# Altium footprint library PcbLib1.PcbLib: 11 footprints
Each footprint in its own frame and in the unit in brackets; x right, y up, seen from the top. Pads: shape width x height; smd on the part's side, far side on the other; paste and mask are expansions set on the pad; w line width, h text height; cw(c..) or ccw(c..) is an arc to the next point about the centre after c.
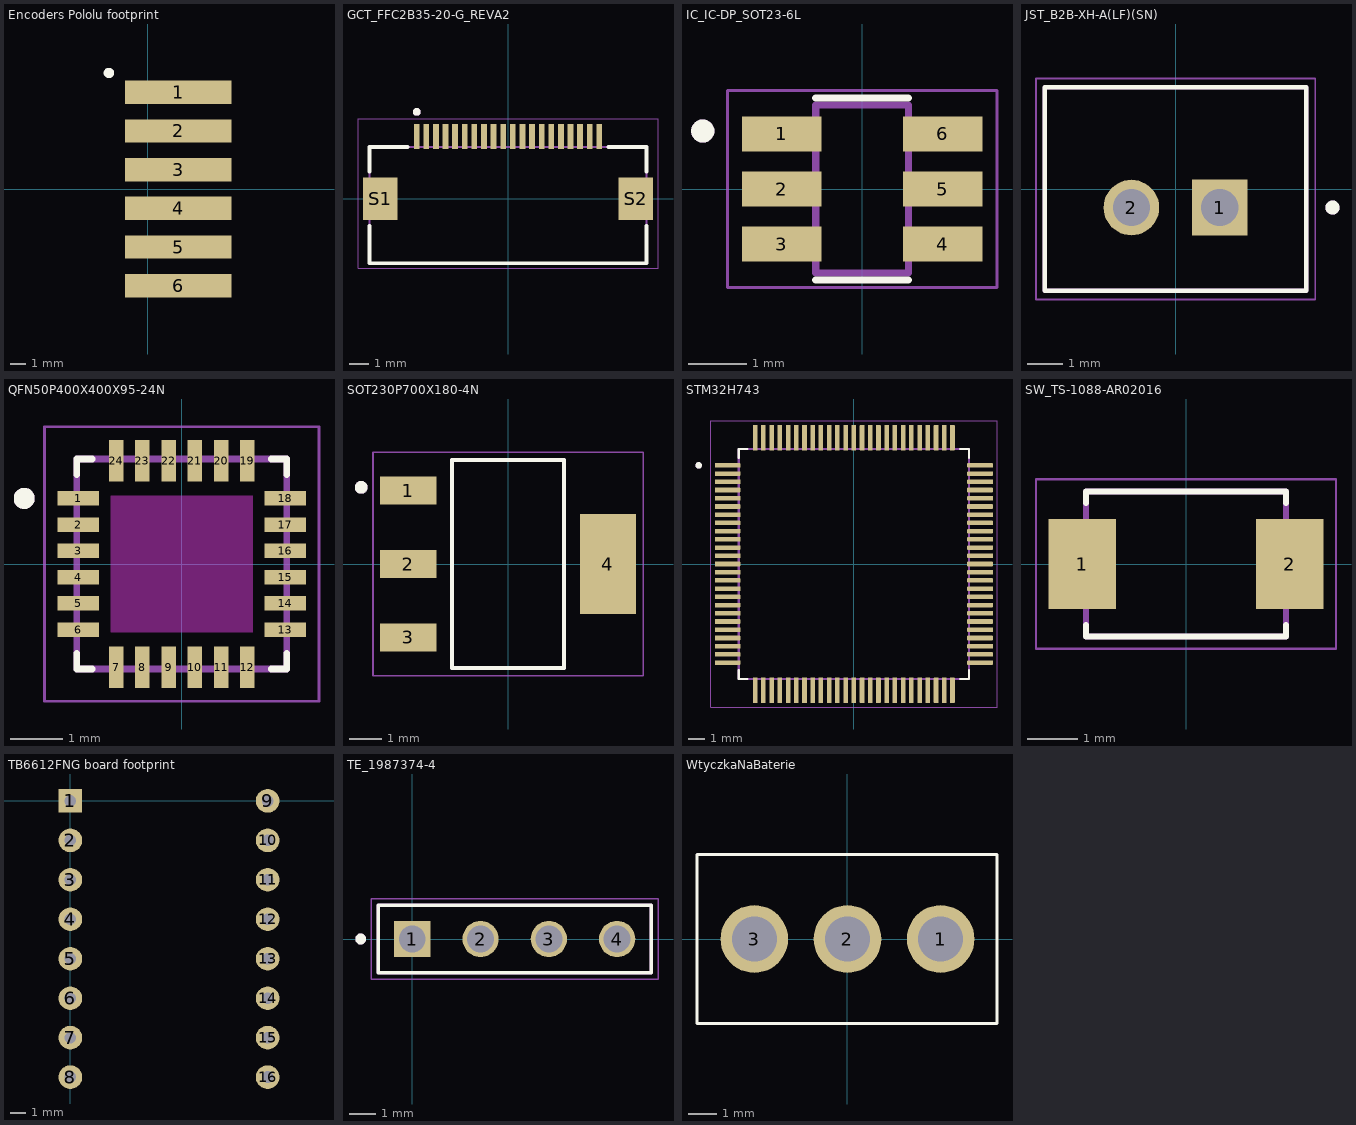
[diagram p0: the footprints below, top view; thin cyan lines are the x and y axes]

## Encoders Pololu footprint [mm]
pads (6):
  rect 7x1.524 smd: 1(2,6.35) 2(2,3.81) 3(2,1.27) 4(2,-1.27) 5(2,-3.81) 6(2,-6.35)
Top Overlay:
  circle w0.381: c-2.54,7.62 r0.15
3D body "magnetic-encoder-pair-kit-for-micro-metal-gearmotors-hpcb-compatible-w1r02a.step": height 9.67, standoff 2.02, extent 2.445,-3.825 4.445,3.825
3D body "magnetic-encoder-pair-kit-for-micro-metal-gearmotors-hpcb-compatible-enc03b.step": height 10.64, standoff 0.04, extent 5.63,-5.8 7.62,5.8

## GCT_FFC2B35-20-G_REVA2 [mm]
pads (22):
  rect 0.3x1.3 smd: 1(-4.75,3.25) 2(-4.25,3.25) 3(-3.75,3.25) 4(-3.25,3.25) 5(-2.75,3.25) 6(-2.25,3.25) 7(-1.75,3.25) 8(-1.25,3.25) 9(-0.75,3.25) 10(-0.25,3.25) 11(0.25,3.25) 12(0.75,3.25) 13(1.25,3.25) 14(1.75,3.25) 15(2.25,3.25) 16(2.75,3.25) 17(3.25,3.25) 18(3.75,3.25) 19(4.25,3.25) 20(4.75,3.25)
  rect 1.8x2.2 smd: S1(-6.65,0) S2(6.65,0)
Top Overlay:
  circle w0.2: c-4.75,4.519 r0.1
  lines w0.2: -7.2,-1.42 -7.2,-3.35 7.2,-3.35 7.2,-1.42 ; -7.2,1.42 -7.2,2.7 -5.22,2.7 ; 5.22,2.7 7.2,2.7 7.2,1.42
Mechanical 13:
  circle w0.2: c-4.75,4.519 r0.1
  lines w0.1: -7.2,-3.35 7.2,-3.35 7.2,2.7 -7.2,2.7 -7.2,-3.35
Mechanical 15:
  lines w0.05: -7.8,-3.6 -7.8,4.15 7.8,4.15 7.8,-3.6 -7.8,-3.6
3D body "FFC2B35-20-G--3DModel-STEP-56544.STEP": height 2, standoff 0, extent -7.2,-3.345 7.2,3.415

## IC_IC-DP_SOT23-6L [mm]
height 1.3
pads (6):
  rect 1.375x0.6 smd: 1(-1.389,0.95) 2(-1.389,0) 3(-1.389,-0.95) 4(1.389,-0.95) 5(1.389,0) 6(1.389,0.95)
Top Overlay:
  circle w0.2: c-2.75,1 r0.1
  lines w0.127: -0.8,-1.57 0.8,-1.57 ; -0.8,1.57 0.8,1.57
Mechanical 13:
  circle w0.2: c-2.75,1 r0.1
  lines w0.127: -0.8,-1.45 -0.8,1.45 0.8,1.45 0.8,-1.45 -0.8,-1.45
Mechanical 15:
  lines w0.05: -2.326,-1.7 2.326,-1.7 2.326,1.7 -2.326,1.7 -2.326,-1.7
3D body "step_temp.STEP": height 1.3, standoff 0, extent -1.4,-1.45 1.4,1.45

## JST_B2B-XH-A(LF)(SN) [mm]
height 7
pads (2):
  rect 1.575x1.575 / inner round 1.575 / far side rect 1.575x1.575 hole 1.05: 1(1.25,-0.525)
  round 1.575 hole 1.05: 2(-1.25,-0.525)
Top Overlay:
  circle w0.2: c4.44,-0.525 r0.1
  lines w0.127: -3.7,-2.875 -3.7,2.875 3.7,2.875 3.7,-2.875 -3.7,-2.875
Mechanical 13:
  circle w0.2: c4.44,-0.525 r0.1
  lines w0.127: -3.7,-2.875 -3.7,2.875 3.7,2.875 3.7,-2.875 -3.7,-2.875
Mechanical 15:
  lines w0.05: -3.95,-3.125 3.95,-3.125 3.95,3.125 -3.95,3.125 -3.95,-3.125
3D body "step_temp.STEP": height 7, standoff -3.4, extent -3.7,-2.875 3.7,2.875

## QFN50P400X400X95-24N [mm]
height 0.95
pads (24):
  rect 0.79x0.28 smd: 1(-1.97,1.25) 2(-1.97,0.75) 3(-1.97,0.25) 4(-1.97,-0.25) 5(-1.97,-0.75) 6(-1.97,-1.25) 13(1.97,-1.25) 14(1.97,-0.75) 15(1.97,-0.25) 16(1.97,0.25) 17(1.97,0.75) 18(1.97,1.25)
  rect 0.28x0.79 smd: 7(-1.25,-1.97) 8(-0.75,-1.97) 9(-0.25,-1.97) 10(0.25,-1.97) 11(0.75,-1.97) 12(1.25,-1.97) 19(1.25,1.97) 20(0.75,1.97) 21(0.25,1.97) 22(-0.25,1.97) 23(-0.75,1.97) 24(-1.25,1.97)
Top Overlay:
  circle w0.2: c-3,1.25 r0.1
  lines w0.127: -2,-1.705 -2,-2 -1.705,-2 ; -2,1.705 -2,2 -1.705,2 ; 1.705,-2 2,-2 2,-1.705 ; 1.705,2 2,2 2,1.705
Keep-Out Layer:
  region: 1.35,-1.3 -1.35,-1.3 -1.35,1.3 1.35,1.3
Mechanical 13:
  circle w0.2: c-3,1.25 r0.1
  lines w0.127: -2,-2 -2,2 2,2 2,-2 -2,-2
Mechanical 15:
  lines w0.05: -2.615,-2.615 -2.615,2.615 2.615,2.615 2.615,-2.615 -2.615,-2.615
3D body "step_temp.STEP": height 0.93, standoff -0.02, extent -2,-2 2,2

## SOT230P700X180-4N [mm]
height 1.8
pads (4):
  rect 1.76x0.88 smd: 1(-3.125,2.3) 2(-3.125,0) 3(-3.125,-2.3)
  rect 1.76x3.14 smd: 4(3.125,0)
Top Overlay:
  circle w0.2: c-4.6,2.4 r0.1
  lines w0.127: -1.75,-3.25 1.75,-3.25 1.75,3.25 -1.75,3.25 -1.75,-3.25
Mechanical 13:
  circle w0.2: c-4.6,2.4 r0.1
  lines w0.127: -1.75,-3.25 -1.75,3.25 1.75,3.25 1.75,-3.25 -1.75,-3.25
Mechanical 15:
  lines w0.05: -4.23,-3.5 -4.23,3.5 4.23,3.5 4.23,-3.5 -4.23,-3.5

## STM32H743 [mm]
pads (100):
  rrect25% 1.56x0.28 smd: 1(-7.68,6) 2(-7.68,5.5) 3(-7.68,5) 4(-7.68,4.5) 5(-7.68,4) 6(-7.68,3.5) 7(-7.68,3) 8(-7.68,2.5) 9(-7.68,2) 10(-7.68,1.5) 11(-7.68,1) 12(-7.68,0.5) 13(-7.68,0) 14(-7.68,-0.5) 15(-7.68,-1) 16(-7.68,-1.5) 17(-7.68,-2) 18(-7.68,-2.5) 19(-7.68,-3) 20(-7.68,-3.5) 21(-7.68,-4) 22(-7.68,-4.5) 23(-7.68,-5) 24(-7.68,-5.5) 25(-7.68,-6) 51(7.68,-6) 52(7.68,-5.5) 53(7.68,-5) 54(7.68,-4.5) 55(7.68,-4) 56(7.68,-3.5) 57(7.68,-3) 58(7.68,-2.5) 59(7.68,-2) 60(7.68,-1.5) 61(7.68,-1) 62(7.68,-0.5) 63(7.68,0) 64(7.68,0.5) 65(7.68,1) 66(7.68,1.5) 67(7.68,2) 68(7.68,2.5) 69(7.68,3) 70(7.68,3.5) 71(7.68,4) 72(7.68,4.5) 73(7.68,5) 74(7.68,5.5) 75(7.68,6)
  rrect25% 0.28x1.56 smd: 26(-6,-7.68) 27(-5.5,-7.68) 28(-5,-7.68) 29(-4.5,-7.68) 30(-4,-7.68) 31(-3.5,-7.68) 32(-3,-7.68) 33(-2.5,-7.68) 34(-2,-7.68) 35(-1.5,-7.68) 36(-1,-7.68) 37(-0.5,-7.68) 38(0,-7.68) 39(0.5,-7.68) 40(1,-7.68) 41(1.5,-7.68) 42(2,-7.68) 43(2.5,-7.68) 44(3,-7.68) 45(3.5,-7.68) 46(4,-7.68) 47(4.5,-7.68) 48(5,-7.68) 49(5.5,-7.68) 50(6,-7.68) 76(6,7.68) 77(5.5,7.68) 78(5,7.68) 79(4.5,7.68) 80(4,7.68) 81(3.5,7.68) 82(3,7.68) 83(2.5,7.68) 84(2,7.68) 85(1.5,7.68) 86(1,7.68) 87(0.5,7.68) 88(0,7.68) 89(-0.5,7.68) 90(-1,7.68) 91(-1.5,7.68) 92(-2,7.68) 93(-2.5,7.68) 94(-3,7.68) 95(-3.5,7.68) 96(-4,7.68) 97(-4.5,7.68) 98(-5,7.68) 99(-5.5,7.68) 100(-6,7.68)
Top Overlay:
  circle w0.2: c-9.44,6 r0.1
  lines w0.127: -7,-6.46 -7,-7 -6.46,-7 ; -7,6.46 -7,7 -6.46,7 ; 6.46,-7 7,-7 7,-6.46 ; 6.46,7 7,7 7,6.46
Mechanical 13:
  circle w0.2: c-9.44,6 r0.1
  lines w0.127: -7,-7 -7,7 7,7 7,-7 -7,-7
Mechanical 15:
  lines w0.05: -8.71,-8.71 -8.71,8.71 8.71,8.71 8.71,-8.71 -8.71,-8.71

## SW_TS-1088-AR02016 [mm]
height 2
pads (2):
  rect 1.35x1.8 smd: 1(-2.075,0) 2(2.075,0)
Top Overlay:
  lines w0.127: -2,-1.22 -2,-1.45 2,-1.45 2,-1.22 ; -2,1.22 -2,1.45 2,1.45 2,1.22
Mechanical 13:
  lines w0.127: -2,-1.45 2,-1.45 2,1.45 -2,1.45 -2,-1.45
Mechanical 15:
  lines w0.05: -3,-1.7 -3,1.7 3,1.7 3,-1.7 -3,-1.7

## TB6612FNG board footprint [mil]
pads (16):
  rect 60x60 hole 30: 1(0,0)
  round 60 hole 30: 2(0,-100) 3(0,-200) 4(0,-300) 5(0,-400) 6(0,-500) 7(0,-600) 8(0,-700) 9(500,0) 10(500,-100) 11(500,-200) 12(500,-300) 13(500,-400) 14(500,-500) 15(500,-600) 16(500,-700)
3D body "tb6612fng-dual-motor-driver-carrier.step": height 110.87, standoff 0, extent -50,-750 550,50

## TE_1987374-4 [mm]
pads (4):
  rect 1.35x1.35 hole 1: 1(0,0)
  round 1.35 hole 1: 2(2.54,0) 3(5.08,0) 4(7.62,0)
Top Overlay:
  circle w0.2: c-1.92,0 r0.1
  lines w0.127: -1.27,-1.25 -1.27,1.25 8.89,1.25 8.89,-1.25 -1.27,-1.25
Mechanical 13:
  circle w0.2: c-1.92,0 r0.1
  lines w0.127: -1.27,-1.25 -1.27,1.25 8.89,1.25 8.89,-1.25 ; -1.27,-1.25 8.89,-1.25 ; -1.27,-1.25 8.89,-1.25
Mechanical 15:
  lines w0.05: -1.52,-1.5 -1.52,1.5 9.14,1.5 9.14,-1.5 -1.52,-1.5

## WtyczkaNaBaterie [mm]
pads (3):
  round 2.4 hole 1.6: 1(3.302,0) 2(0,0) 3(-3.302,0)
Top Overlay:
  lines w0.1: -5.334,-3 5.3,-3 5.3,0 5.3,3 -5.334,3 -5.334,-3